# Altium footprint library ST3215SB_3215.PcbLib: 1 footprints
Each footprint in its own frame and in the unit in brackets; x right, y up, seen from the top. Pads: shape width x height; smd on the part's side, far side on the other; paste and mask are expansions set on the pad; w line width, h text height; cw(c..) or ccw(c..) is an arc to the next point about the centre after c.
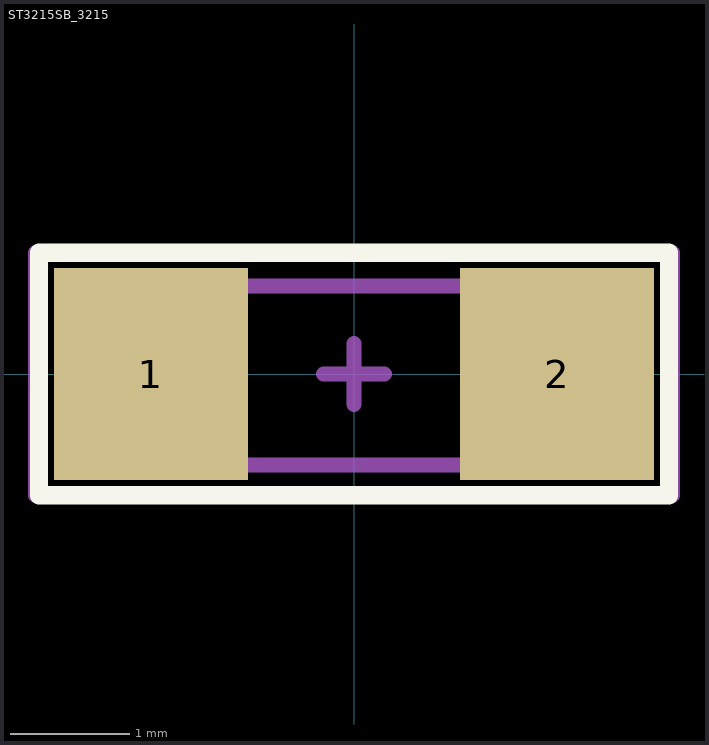
[diagram p0: the footprint, top view; thin cyan lines are the x and y axes]

## ST3215SB_3215 [mil]
pads (2):
  rect 64x70 smd: 1(-67,0) 2(67,0)
Top Overlay:
  lines w6: -104,-40 104,-40 104,40 -35,40 -104,40 -104,-40
Top Assembly:
  lines w5: -82.41,-30 79,-30 79,29.06 -82.41,29.06 -82.41,-30
Top Courtyard:
  lines w5: -10,0 10,0 ; 0,-10 0,10 ; -105,-40 105,-40 105,40 -105,40 -105,-40
3D body "User Library-CC5V-T1A_Tuning Fork Crystal.step": height 35.43, standoff -0.2, extent -82.41,-30 79,29.06